# EAGLE library part IMS-T400 (library Transputers)
T400 transputer INMOS 32 bit transputer with two communication links Based on source: The Transputer Databook 1992 Arto Kyyhkynen, artoky@dlc.fi
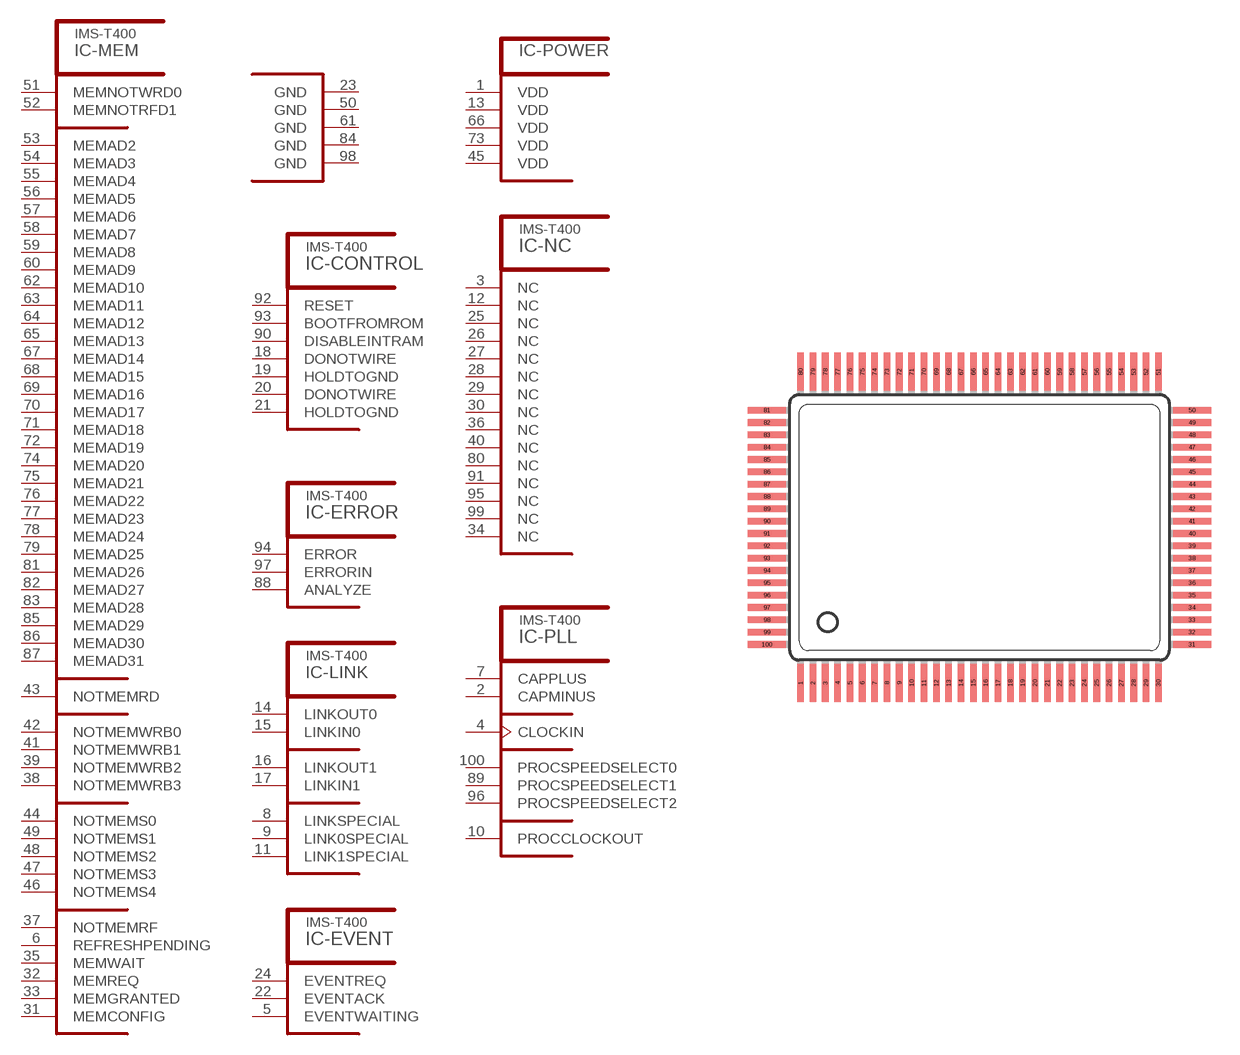
[diagram p2: symbol with the pads of PQFP100; footprint PQFP100]

Designator prefix IC; gates -ERROR=T400ERROR -EVENT=T400EVENT -LINK=T400LINK -MEM=T400MEM -NC=T400NC -PLL=T400PLL -POWER=T400SUP -CONTROL=T400CONTROL

## IMS-T400I20X, IMS-T400S20X  [PQFP100]
1  -POWER:VDD  pwr
2  -PLL:CAPMINUS  pas
3  -NC:NC  nc
4  -PLL:CLOCKIN  in
5  -EVENT:EVENTWAITING  out
6  -MEM:REFRESHPENDING  out
7  -PLL:CAPPLUS  pas
8  -LINK:LINKSPECIAL  in
9  -LINK:LINK0SPECIAL  in
10  -PLL:PROCCLOCKOUT  out
11  -LINK:LINK1SPECIAL  in
12  -NC:NC  nc
13  -POWER:VDD  pwr
14  -LINK:LINKOUT0  out
15  -LINK:LINKIN0  in
16  -LINK:LINKOUT1  out
17  -LINK:LINKIN1  in
18  -CONTROL:DONOTWIRE  nc
19  -CONTROL:HOLDTOGND  pwr
20  -CONTROL:DONOTWIRE  nc
21  -CONTROL:HOLDTOGND  pwr
22  -EVENT:EVENTACK  out
23  -POWER:GND  pwr
24  -EVENT:EVENTREQ  in
25  -NC:NC  nc
26  -NC:NC  nc
27  -NC:NC  nc
28  -NC:NC  nc
29  -NC:NC  nc
30  -NC:NC  nc
31  -MEM:MEMCONFIG  in
32  -MEM:MEMREQ  in
33  -MEM:MEMGRANTED  out
34  -NC:NC  nc
35  -MEM:MEMWAIT  in
36  -NC:NC  nc
37  -MEM:NOTMEMRF  out
38  -MEM:NOTMEMWRB3  out
39  -MEM:NOTMEMWRB2  out
40  -NC:NC  nc
41  -MEM:NOTMEMWRB1  out
42  -MEM:NOTMEMWRB0  out
43  -MEM:NOTMEMRD  out
44  -MEM:NOTMEMS0  out
45  -POWER:VDD  pwr
46  -MEM:NOTMEMS4  out
47  -MEM:NOTMEMS3  out
48  -MEM:NOTMEMS2  out
49  -MEM:NOTMEMS1  out
50  -POWER:GND  pwr
51  -MEM:MEMNOTWRD0
52  -MEM:MEMNOTRFD1
53  -MEM:MEMAD2
54  -MEM:MEMAD3
55  -MEM:MEMAD4
56  -MEM:MEMAD5
57  -MEM:MEMAD6
58  -MEM:MEMAD7
59  -MEM:MEMAD8
60  -MEM:MEMAD9
61  -POWER:GND  pwr
62  -MEM:MEMAD10
63  -MEM:MEMAD11
64  -MEM:MEMAD12
65  -MEM:MEMAD13
66  -POWER:VDD  pwr
67  -MEM:MEMAD14
68  -MEM:MEMAD15
69  -MEM:MEMAD16
70  -MEM:MEMAD17
71  -MEM:MEMAD18
72  -MEM:MEMAD19
73  -POWER:VDD  pwr
74  -MEM:MEMAD20
75  -MEM:MEMAD21
76  -MEM:MEMAD22
77  -MEM:MEMAD23
78  -MEM:MEMAD24
79  -MEM:MEMAD25
80  -NC:NC  nc
81  -MEM:MEMAD26
82  -MEM:MEMAD27
83  -MEM:MEMAD28
84  -POWER:GND  pwr
85  -MEM:MEMAD29
86  -MEM:MEMAD30
87  -MEM:MEMAD31
88  -ERROR:ANALYZE  in
89  -PLL:PROCSPEEDSELECT1  in
90  -CONTROL:DISABLEINTRAM  in
91  -NC:NC  nc
92  -CONTROL:RESET  in
93  -CONTROL:BOOTFROMROM  in
94  -ERROR:ERROR  out
95  -NC:NC  nc
96  -PLL:PROCSPEEDSELECT2  in
97  -ERROR:ERRORIN  in
98  -POWER:GND  pwr
99  -NC:NC  nc
100  -PLL:PROCSPEEDSELECT0  in

## Footprint PQFP100 (pad centres in mm)
Plastic Quad Flat Pack INMOS/ST-Microelectronics
smd 0.35 x 2: 1 -9.425,-8.2; 2 -8.775,-8.2; 3 -8.125,-8.2; 4 -7.475,-8.2; 5 -6.825,-8.2; 6 -6.175,-8.2; 7 -5.525,-8.2; 8 -4.875,-8.2; 9 -4.225,-8.2; 10 -3.575,-8.2; 11 -2.925,-8.2; 12 -2.275,-8.2; 13 -1.625,-8.2; 14 -0.975,-8.2; 15 -0.325,-8.2; 16 0.325,-8.2; 17 0.975,-8.2; 18 1.625,-8.2; 19 2.275,-8.2; 20 2.925,-8.2; 21 3.575,-8.2; 22 4.225,-8.2; 23 4.875,-8.2; 24 5.525,-8.2; 25 6.175,-8.2; 26 6.825,-8.2; 27 7.475,-8.2; 28 8.125,-8.2; 29 8.775,-8.2; 30 9.425,-8.2; 51 9.425,8.2; 52 8.775,8.2; 53 8.125,8.2; 54 7.475,8.2; 55 6.825,8.2; 56 6.175,8.2; 57 5.525,8.2; 58 4.875,8.2; 59 4.225,8.2; 60 3.575,8.2; 61 2.925,8.2; 62 2.275,8.2; 63 1.625,8.2; 64 0.975,8.2; 65 0.325,8.2; 66 -0.325,8.2; 67 -0.975,8.2; 68 -1.625,8.2; 69 -2.275,8.2; 70 -2.925,8.2; 71 -3.575,8.2; 72 -4.225,8.2; 73 -4.875,8.2; 74 -5.525,8.2; 75 -6.175,8.2; 76 -6.825,8.2; 77 -7.475,8.2; 78 -8.125,8.2; 79 -8.775,8.2; 80 -9.425,8.2
smd 2 x 0.35: 31 11.2,-6.175; 32 11.2,-5.525; 33 11.2,-4.875; 34 11.2,-4.225; 35 11.2,-3.575; 36 11.2,-2.925; 37 11.2,-2.275; 38 11.2,-1.625; 39 11.2,-0.975; 40 11.2,-0.325; 41 11.2,0.325; 42 11.2,0.975; 43 11.2,1.625; 44 11.2,2.275; 45 11.2,2.925; 46 11.2,3.575; 47 11.2,4.225; 48 11.2,4.875; 49 11.2,5.525; 50 11.2,6.175; 81 -11.2,6.175; 82 -11.2,5.525; 83 -11.2,4.875; 84 -11.2,4.225; 85 -11.2,3.575; 86 -11.2,2.925; 87 -11.2,2.275; 88 -11.2,1.625; 89 -11.2,0.975; 90 -11.2,0.325; 91 -11.2,-0.325; 92 -11.2,-0.975; 93 -11.2,-1.625; 94 -11.2,-2.275; 95 -11.2,-2.925; 96 -11.2,-3.575; 97 -11.2,-4.225; 98 -11.2,-4.875; 99 -11.2,-5.525; 100 -11.2,-6.175